# Altium footprint library INDC1005X55N_V.PcbLib: 1 footprints
Each footprint in its own frame and in the unit in brackets; x right, y up, seen from the top. Pads: shape width x height; smd on the part's side, far side on the other; paste and mask are expansions set on the pad; w line width, h text height; cw(c..) or ccw(c..) is an arc to the next point about the centre after c.
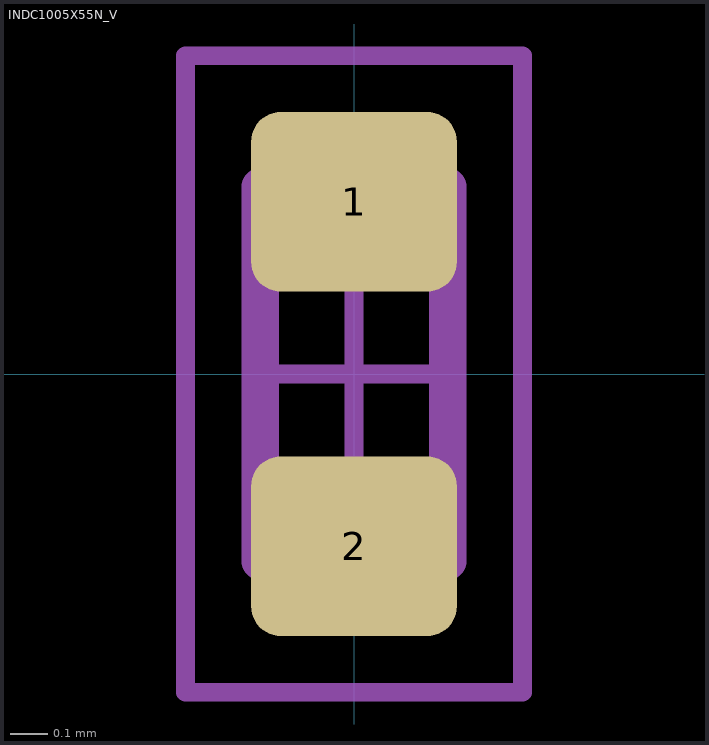
[diagram p0: the footprint, top view; thin cyan lines are the x and y axes]

## INDC1005X55N_V [mm]
height 0.55
pads (2):
  rrect33% 0.55x0.48 smd: 1(0,0.46) 2(0,-0.46)
Top Assembly:
  lines w0.1: -0.25,-0.3 0.25,-0.3 ; -0.25,0.3 0.25,0.3 ; -0.25,-0.5 0.25,-0.5 0.25,0.5 -0.25,0.5 -0.25,-0.5
Top Courtyard:
  lines w0.05: -0.45,-0.85 0.45,-0.85 0.45,0.85 -0.45,0.85 -0.45,-0.85
Top Designator:
  text ".Designator" at 0.45,0.85 h0.7
Top Component Center:
  lines w0.05: -0.225,0 0.225,0 ; 0,-0.225 0,0.225
3D body "User Library-Chip Inductor.step": height 0.5, standoff 0, extent -0.3,-0.5 0.3,0.5